# EAGLE library part SY89873L (library mylibrary)
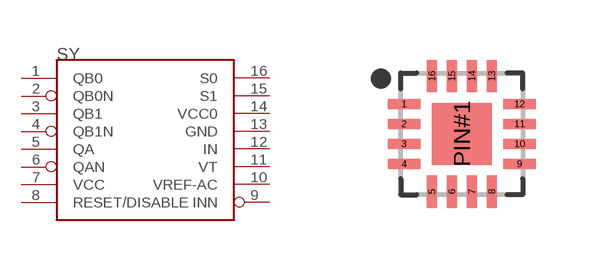
[diagram p0: symbol with the pads of QFN50P300X300X90-16; footprint QFN50P300X300X90-16]

Designator prefix SY

## SY89873LN  [QFN50P300X300X90-16]
1  QB0
2  QB0N
3  QB1
4  QB1N
5  QA
6  QAN
7  VCC
8  RESET/DISABLE
9  INN
10  VREF-AC
11  VT
12  IN
13  GND
14  VCC0
15  S1
16  S0

## Footprint QFN50P300X300X90-16 (pad centres in mm)
16-QFN, 0.5 mm pitch, 3 X 3 X 0.9 mm body 16-pin QFN package with 0.5 mm pitch with body size 3 X 3 X 0.9 mm
smd 0.81 x 0.25: 1 -1.445,0.75; 2 -1.445,0.25; 3 -1.445,-0.25; 4 -1.445,-0.75; 9 1.445,-0.75; 10 1.445,-0.25; 11 1.445,0.25; 12 1.445,0.75
smd 0.25 x 0.81: 5 -0.75,-1.445; 6 -0.25,-1.445; 7 0.25,-1.445; 8 0.75,-1.445; 13 0.75,1.445; 14 0.25,1.445; 15 -0.25,1.445; 16 -0.75,1.445
smd 1.5 x 1.55: PIN#1 0,0